# EAGLE library part VP2* (library inductor-cooper)
TRANSFORMER/INDUCTOR
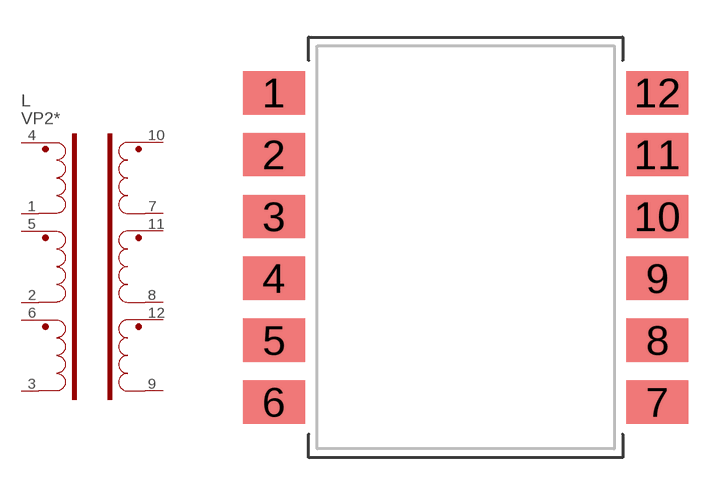
[diagram p1: symbol with the pads of VP2; footprint VP2]

Designator prefix L; gates P1=PNV P2=P P3=P S1=S S2=S S3=S

## VP2 (P1I: o)  [VP2]
1  P1:PC  pas
2  P2:PC  pas
3  P3:PC  pas
4  P1:PH  pas
5  P2:PH  pas
6  P3:PH  pas
7  S1:SC  pas
8  S2:SC  pas
9  S3:SC  pas
10  S1:SH  pas
11  S2:SH  pas
12  S3:SH  pas

## Footprint VP2 (pad centres in mm)
INDUCTOR/TRANSFORMER VP2 and VPH2
smd 2.5 x 1.75: 1 -7.75,6.25; 2 -7.75,3.75; 3 -7.75,1.25; 4 -7.75,-1.25; 5 -7.75,-3.75; 6 -7.75,-6.25; 7 7.75,-6.25; 8 7.75,-3.75; 9 7.75,-1.25; 10 7.75,1.25; 11 7.75,3.75; 12 7.75,6.25